# Altium footprint library Terminal_Blocks_Pluggable PCB_3.81mm.PcbLib: 22 footprints (part 2 of 2)
Each footprint in its own frame and in the unit in brackets; x right, y up, seen from the top. Pads: shape width x height; smd on the part's side, far side on the other; paste and mask are expansions set on the pad; w line width, h text height; cw(c..) or ccw(c..) is an arc to the next point about the centre after c.
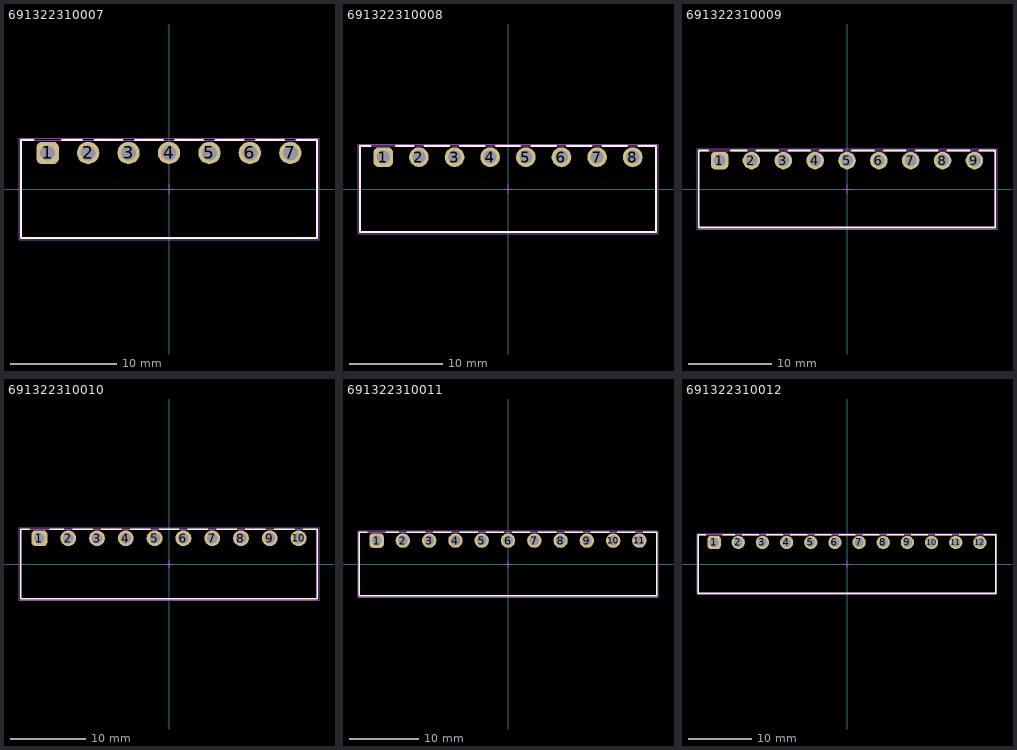
[diagram p1: the footprints below, top view; thin cyan lines are the x and y axes]

## 691322310007 [mm] "Horizontal PCB Header, pitch 3.81mm, 07p"
height 7
pads (7):
  rrect50% 2.1x2.1 hole 1.4: 1(-11.43,3.4)
  round 2.1 hole 1.4: 2(-7.62,3.4) 3(-3.81,3.4) 4(0,3.4) 5(3.81,3.4) 6(7.62,3.4) 7(11.43,3.4)
Top Overlay:
  lines w0.2: -12.78,4.6 -13.93,4.6 -13.93,-4.6 13.93,-4.6 13.93,4.6 12.02,4.6 ; -10.08,4.6 -8.21,4.6 ; -7.03,4.6 -4.4,4.6 ; -3.22,4.6 -0.59,4.6 ; 0.59,4.6 3.22,4.6 ; 4.4,4.6 7.03,4.6 ; 8.21,4.6 10.84,4.6
Top Designator:
  text ".Designator" at -7.498,-0.5 h1.5
Top Component Outline:
  lines w0.1: -13.93,-4.6 13.93,-4.6 13.93,4.6 -13.93,4.6 -13.93,-4.6
Top 3D Body:
  lines w0.1: -13.93,-4.6 -13.93,4.6 13.93,4.6 13.93,-4.6 -13.93,-4.6
Top Courtyard:
  lines w0.05: -14.13,-4.8 14.13,-4.8 14.13,4.8 -14.13,4.8 -14.13,-4.8
Top Component Center:
  lines w0.05: -0.5,0 0.5,0 ; 0,-0.5 0,0.5
3D body "691322310007.stp": height 7.25, standoff -3.45, extent -13.93,-4.6 13.93,4.6

## 691322310008 [mm] "Horizontal PCB Header, pitch 3.81mm, 08p"
height 7
pads (8):
  rrect50% 2.1x2.1 hole 1.4: 1(-13.335,3.4)
  round 2.1 hole 1.4: 2(-9.525,3.4) 3(-5.715,3.4) 4(-1.905,3.4) 5(1.905,3.4) 6(5.715,3.4) 7(9.525,3.4) 8(13.335,3.4)
Top Overlay:
  lines w0.2: -14.685,4.6 -15.835,4.6 -15.835,-4.6 15.835,-4.6 15.835,4.6 13.925,4.6 ; -11.985,4.6 -10.115,4.6 ; -8.935,4.6 -6.305,4.6 ; -5.125,4.6 -2.495,4.6 ; -1.315,4.6 1.315,4.6 ; 2.495,4.6 5.125,4.6 ; 6.305,4.6 8.935,4.6 ; 10.115,4.6 12.745,4.6
Top Designator:
  text ".Designator" at -7.498,-0.5 h1.5
Top Component Outline:
  lines w0.1: -15.835,-4.6 15.835,-4.6 15.835,4.6 -15.835,4.6 -15.835,-4.6
Top 3D Body:
  lines w0.1: -15.835,-4.6 -15.835,4.6 15.835,4.6 15.835,-4.6 -15.835,-4.6
Top Courtyard:
  lines w0.05: -16.035,-4.8 16.035,-4.8 16.035,4.8 -16.035,4.8 -16.035,-4.8
Top Component Center:
  lines w0.05: -0.5,0 0.5,0 ; 0,-0.5 0,0.5
3D body "691322310008.stp": height 7.25, standoff -3.45, extent -15.835,-4.6 15.835,4.6

## 691322310009 [mm] "Horizontal PCB Header, pitch 3.81mm, 09p"
height 7
pads (9):
  rrect50% 2.1x2.1 hole 1.4: 1(-15.24,3.4)
  round 2.1 hole 1.4: 2(-11.43,3.4) 3(-7.62,3.4) 4(-3.81,3.4) 5(0,3.4) 6(3.81,3.4) 7(7.62,3.4) 8(11.43,3.4) 9(15.24,3.4)
Top Overlay:
  lines w0.2: -16.59,4.6 -17.74,4.6 -17.74,-4.6 17.74,-4.6 17.74,4.6 15.83,4.6 ; -13.89,4.6 -12.02,4.6 ; -10.84,4.6 -8.21,4.6 ; -7.03,4.6 -4.4,4.6 ; -3.22,4.6 -0.59,4.6 ; 0.59,4.6 3.22,4.6 ; 4.4,4.6 7.03,4.6 ; 8.21,4.6 10.84,4.6 ; 12.02,4.6 14.65,4.6
Top Designator:
  text ".Designator" at -7.498,-0.5 h1.5
Top Component Outline:
  lines w0.1: -17.74,-4.6 -17.74,4.6 17.74,4.6 17.74,-4.6 -17.74,-4.6
Top 3D Body:
  lines w0.1: -17.74,-4.6 17.74,-4.6 17.74,4.6 -17.74,4.6 -17.74,-4.6
Top Courtyard:
  lines w0.05: -17.94,-4.8 -17.94,4.8 17.94,4.8 17.94,-4.8 -17.94,-4.8
Top Component Center:
  lines w0.05: -0.5,0 0.5,0 ; 0,-0.5 0,0.5
3D body "691322310009.stp": height 7.25, standoff -3.45, extent -17.74,-4.6 17.74,4.6

## 691322310010 [mm] "Horizontal PCB Header, pitch 3.81mm, 10p"
height 7
pads (10):
  rrect50% 2.1x2.1 hole 1.4: 1(-17.145,3.4)
  round 2.1 hole 1.4: 2(-13.335,3.4) 3(-9.525,3.4) 4(-5.715,3.4) 5(-1.905,3.4) 6(1.905,3.4) 7(5.715,3.4) 8(9.525,3.4) 9(13.335,3.4) 10(17.145,3.4)
Top Overlay:
  lines w0.2: -18.495,4.6 -19.645,4.6 -19.645,-4.6 19.645,-4.6 19.645,4.6 17.735,4.6 ; -15.795,4.6 -13.925,4.6 ; -12.745,4.6 -10.115,4.6 ; -8.935,4.6 -6.305,4.6 ; -5.125,4.6 -2.495,4.6 ; -1.315,4.6 1.315,4.6 ; 2.495,4.6 5.125,4.6 ; 6.305,4.6 8.935,4.6 ; 10.115,4.6 12.745,4.6 ; 13.925,4.6 16.555,4.6
Top Designator:
  text ".Designator" at -7.498,-0.5 h1.5
Top Component Outline:
  lines w0.1: -19.645,-4.6 -19.645,4.6 19.645,4.6 19.645,-4.6 -19.645,-4.6
Top 3D Body:
  lines w0.1: -19.645,-4.6 19.645,-4.6 19.645,4.6 -19.645,4.6 -19.645,-4.6
Top Courtyard:
  lines w0.05: -19.845,-4.8 -19.845,4.8 19.845,4.8 19.845,-4.8 -19.845,-4.8
Top Component Center:
  lines w0.05: -0.5,0 0.5,0 ; 0,-0.5 0,0.5
3D body "691322310010.stp": height 7.25, standoff -3.45, extent -19.645,-4.6 19.645,4.6

## 691322310011 [mm] "Horizontal PCB Header, pitch 3.81mm, 11p"
height 7
pads (11):
  rrect50% 2.1x2.1 hole 1.4: 1(-19.05,3.4)
  round 2.1 hole 1.4: 2(-15.24,3.4) 3(-11.43,3.4) 4(-7.62,3.4) 5(-3.81,3.4) 6(0,3.4) 7(3.81,3.4) 8(7.62,3.4) 9(11.43,3.4) 10(15.24,3.4) 11(19.05,3.4)
Top Overlay:
  lines w0.2: -20.4,4.6 -21.55,4.6 -21.55,-4.6 21.55,-4.6 21.55,4.6 19.64,4.6 ; -17.7,4.6 -15.83,4.6 ; -14.65,4.6 -12.02,4.6 ; -10.84,4.6 -8.21,4.6 ; -7.03,4.6 -4.4,4.6 ; -3.22,4.6 -0.59,4.6 ; 0.59,4.6 3.22,4.6 ; 4.4,4.6 7.03,4.6 ; 8.21,4.6 10.84,4.6 ; 12.02,4.6 14.65,4.6 ; 15.83,4.6 18.46,4.6
Top Designator:
  text ".Designator" at -7.498,-0.5 h1.5
Top Component Outline:
  lines w0.1: -21.55,-4.6 21.55,-4.6 21.55,4.6 -21.55,4.6 -21.55,-4.6
Top 3D Body:
  lines w0.1: -21.55,-4.6 -21.55,4.6 21.55,4.6 21.55,-4.6 -21.55,-4.6
Top Courtyard:
  lines w0.05: -21.75,-4.8 21.75,-4.8 21.75,4.8 -21.75,4.8 -21.75,-4.8
Top Component Center:
  lines w0.05: -0.5,0 0.5,0 ; 0,-0.5 0,0.5
3D body "691322310011.stp": height 7.25, standoff -3.45, extent -21.55,-4.6 21.55,4.6

## 691322310012 [mm] "Horizontal PCB Header, pitch 3.81mm, 12p"
height 7
pads (12):
  rrect50% 2.1x2.1 hole 1.4: 1(-20.955,3.4)
  round 2.1 hole 1.4: 2(-17.145,3.4) 3(-13.335,3.4) 4(-9.525,3.4) 5(-5.715,3.4) 6(-1.905,3.4) 7(1.905,3.4) 8(5.715,3.4) 9(9.525,3.4) 10(13.335,3.4) 11(17.145,3.4) 12(20.955,3.4)
Top Overlay:
  lines w0.2: -22.305,4.6 -23.455,4.6 -23.455,-4.6 23.455,-4.6 23.455,4.6 21.545,4.6 ; -19.605,4.6 -17.735,4.6 ; -16.555,4.6 -13.925,4.6 ; -12.745,4.6 -10.115,4.6 ; -8.935,4.6 -6.305,4.6 ; -5.125,4.6 -2.495,4.6 ; -1.315,4.6 1.315,4.6 ; 2.495,4.6 5.125,4.6 ; 6.305,4.6 8.935,4.6 ; 10.115,4.6 12.745,4.6 ; 13.925,4.6 16.555,4.6 ; 17.735,4.6 20.365,4.6
Top Designator:
  text ".Designator" at -7.498,-0.5 h1.5
Top Component Outline:
  lines w0.1: -23.455,-4.6 23.455,-4.6 23.455,4.6 -23.455,4.6 -23.455,-4.6
Top 3D Body:
  lines w0.1: -23.455,-4.6 -23.455,4.6 23.455,4.6 23.455,-4.6 -23.455,-4.6
Top Courtyard:
  lines w0.05: -23.655,-4.8 23.655,-4.8 23.655,4.8 -23.655,4.8 -23.655,-4.8
Top Component Center:
  lines w0.05: -0.5,0 0.5,0 ; 0,-0.5 0,0.5
3D body "691322310012.stp": height 7.25, standoff -3.45, extent -23.455,-4.6 23.455,4.6